# EAGLE library part LTC4300-1 (library linear-technology)
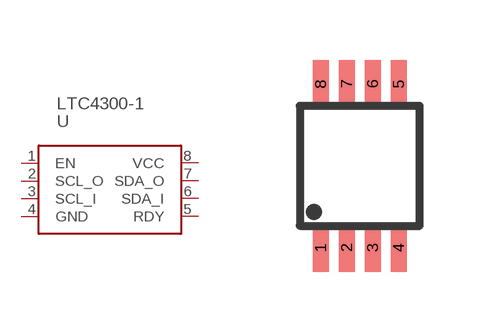
[diagram p21: symbol with the pads of MSOP8; footprint MSOP8]

Designator prefix -

## LTC4300-1  [MSOP8]
1  EN
2  SCL_O
3  SCL_I
4  GND
5  RDY
6  SDA_I
7  SDA_O
8  VCC

## Footprint MSOP8 (pad centres in mm)
MSOP8
smd 0.4 x 1.2: 1 -0.975,-2.05; 2 -0.325,-2.05; 3 0.325,-2.05; 4 0.975,-2.05; 5 0.975,2.05; 6 0.325,2.05; 7 -0.325,2.05; 8 -0.975,2.05